# Altium footprint library Crystals SMD.PcbLib: 2 footprints
Each footprint in its own frame and in the unit in brackets; x right, y up, seen from the top. Pads: shape width x height; smd on the part's side, far side on the other; paste and mask are expansions set on the pad; w line width, h text height; cw(c..) or ccw(c..) is an arc to the next point about the centre after c.
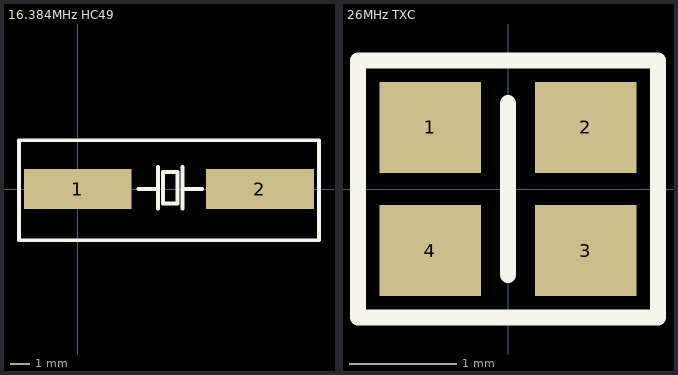
[diagram p0: the footprints below, top view; thin cyan lines are the x and y axes]

## 16.384MHz HC49 [mm] "16.384MHz ±30ppm Crystal 18pF 40 Ohms HC-49/US"
pads (2):
  rect 5.6x2.1 smd: 1(0,0) 2(9.5,0)
Top Overlay:
  lines w0.2: 3.175,0 4.191,0 ; 4.191,-1.016 4.191,0 ; 4.191,1.143 4.191,0 ; 5.461,-1.016 5.461,0 ; 5.461,1.143 5.461,0 ; 6.477,0 5.461,0 ; -3.048,-2.667 -3.048,2.54 12.573,2.54 12.573,-2.667 -3.048,-2.667 ; 4.445,-0.762 4.445,0.889 5.207,0.889 5.207,-0.762 4.445,-0.762
3D body "Crystal HC49.step": height 4.31, standoff 0.01, extent -1.7,-2.5 11.1,2.33

## 26MHz TXC [mm] "26MHz ±10ppm Crystal 12pF 60 Ohms 4-SMD, No Lead"
pads (4):
  rect 0.95x0.85 smd: 1(-0.725,0.575) 2(0.725,0.575) 3(0.725,-0.575) 4(-0.725,-0.575)
Top Overlay:
  lines w0.152: 0,-0.8 0,0.8 ; -1.4,-1.2 -1.4,1.2 1.4,1.2 1.4,-1.2 -1.4,-1.2
3D body "Crrystal TXC.step": height 0.57, standoff 0.01, extent -1.045,-0.855 1.055,0.845